# Altium footprint library Connectors.PcbLib: 33 footprints (part 1 of 3)
Each footprint in its own frame and in the unit in brackets; x right, y up, seen from the top. Pads: shape width x height; smd on the part's side, far side on the other; paste and mask are expansions set on the pad; w line width, h text height; cw(c..) or ccw(c..) is an arc to the next point about the centre after c.
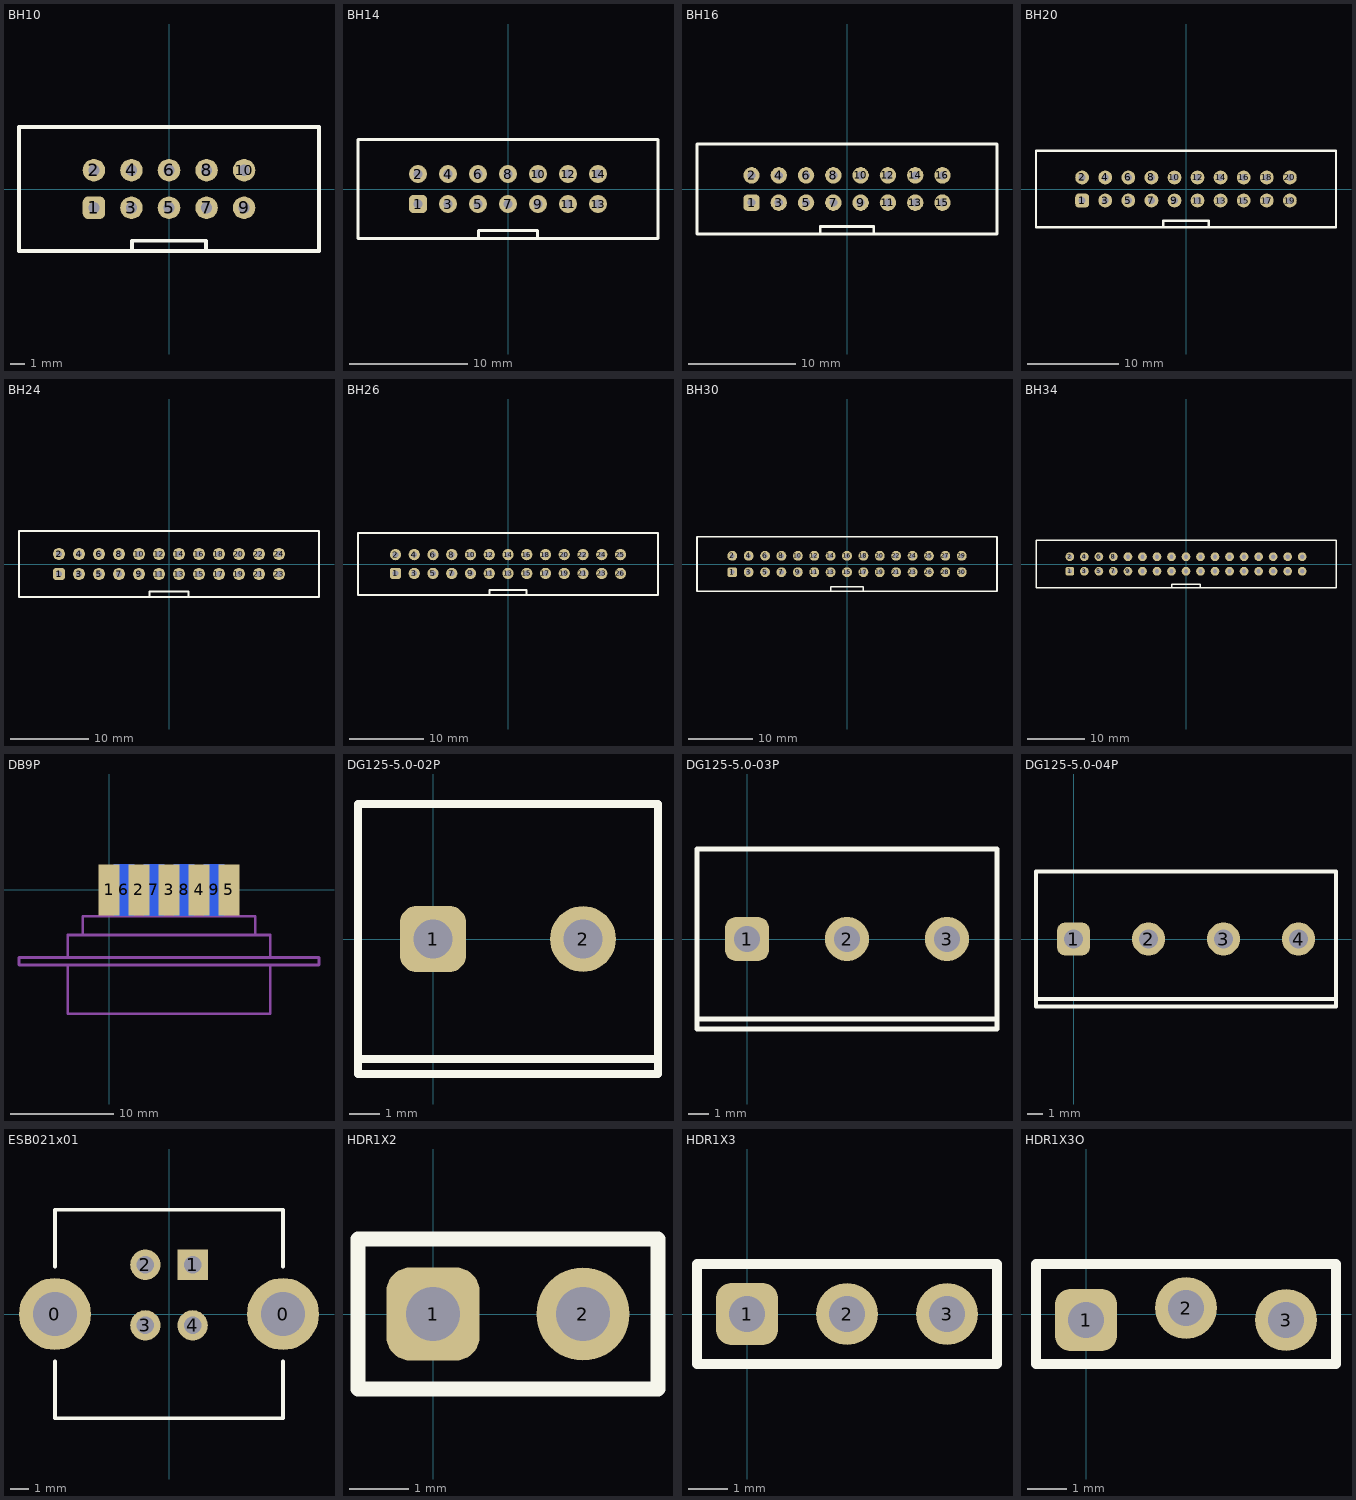
[diagram p0: the footprints below, top view; thin cyan lines are the x and y axes]

## BH10 [mil] "BH10"
height 366.14
pads (10):
  rrect50% 60x60 hole 30: 1(-200,-50)
  round 60 hole 30: 2(-200,50) 3(-100,-50) 4(-100,50) 5(0,-50) 6(0,50) 7(100,-50) 8(100,50) 9(200,-50) 10(200,50)
Top Overlay:
  lines w10: -98.43,-165.35 -98.43,-137.8 98.43,-137.8 98.43,-165.35 ; -399.61,-165.35 399.61,-165.35 399.61,165.35 -399.61,165.35 -399.61,-165.35
3D body: height 366.14, standoff 0, extent -398.62,-165.35 399.61,165.35

## BH14 [mil]
height 366.14
pads (14):
  rrect50% 60x60 hole 30: 1(-300,-50)
  round 60 hole 30: 2(-300,50) 3(-200,-50) 4(-200,50) 5(-100,-50) 6(-100,50) 7(0,-50) 8(0,50) 9(100,-50) 10(100,50) 11(200,-50) 12(200,50) 13(300,-50) 14(300,50)
Top Overlay:
  lines w10: -98.43,-165.35 -98.43,-137.8 98.43,-137.8 98.43,-165.35 ; -500,-165.35 -500,165.35 500,165.35 500,-165.35 -500,-165.35
3D body: height 366.14, standoff 0, extent -500,-165.35 500,165.35

## BH16 [mil]
height 366.14
pads (16):
  rrect50% 60x60 hole 30: 1(-350,-50)
  round 60 hole 30: 2(-350,50) 3(-250,-50) 4(-250,50) 5(-150,-50) 6(-150,50) 7(-50,-50) 8(-50,50) 9(50,-50) 10(50,50) 11(150,-50) 12(150,50) 13(250,-50) 14(250,50) 15(350,-50) 16(350,50)
Top Overlay:
  lines w10: -98.43,-165.35 -98.43,-137.8 98.43,-137.8 98.43,-165.35 ; -550,-165.35 550,-165.35 550,165.35 -550,165.35 -550,-165.35
3D body: height 366.14, standoff 0, extent -550,-165.4 550,165.35

## BH20 [mil]
height 366.14
pads (20):
  rrect50% 60x60 hole 30: 1(-450,-50)
  round 60 hole 30: 2(-450,50) 3(-350,-50) 4(-350,50) 5(-250,-50) 6(-250,50) 7(-150,-50) 8(-150,50) 9(-50,-50) 10(-50,50) 11(50,-50) 12(50,50) 13(150,-50) 14(150,50) 15(250,-50) 16(250,50) 17(350,-50) 18(350,50) 19(450,-50) 20(450,50)
Top Overlay:
  lines w10: -98.43,-165.35 -98.43,-137.8 98.43,-137.8 98.43,-165.35 ; -650,-165.35 -650,165.35 650,165.35 650,-165.35 -650,-165.35
3D body: height 366.14, standoff 0, extent -650,-165.5 650,165.35

## BH24 [mil]
height 366.14
pads (24):
  rrect50% 60x60 hole 30: 1(-550,-50)
  round 60 hole 30: 2(-550,50) 3(-450,-50) 4(-450,50) 5(-350,-50) 6(-350,50) 7(-250,-50) 8(-250,50) 9(-150,-50) 10(-150,50) 11(-50,-50) 12(-50,50) 13(50,-50) 14(50,50) 15(150,-50) 16(150,50) 17(250,-50) 18(250,50) 19(350,-50) 20(350,50) 21(450,-50) 22(450,50) 23(550,-50) 24(550,50)
Top Overlay:
  lines w10: -98.43,-165.35 -98.43,-137.8 98.43,-137.8 98.43,-165.35 ; -750,-165.35 750,-165.35 750,165.35 -750,165.35 -750,-165.35
3D body: height 366.14, standoff 0, extent -750,-165.43 750,165.43

## BH26 [mil]
height 366.14
pads (26):
  rrect50% 60x60 hole 30: 1(-600,-50)
  round 60 hole 30: 2(-600,50) 3(-500,-50) 4(-500,50) 5(-400,-50) 6(-400,50) 7(-300,-50) 8(-300,50) 9(-200,-50) 10(-200,50) 11(-100,-50) 12(-100,50) 13(0,-50) 14(0,50) 15(100,-50) 16(100,50) 17(200,-50) 18(200,50) 19(300,-50) 20(300,50) 21(400,-50) 22(400,50) 23(500,-50) 24(500,50) 25(600,50) 26(600,-50)
Top Overlay:
  lines w10: -98.43,-165.35 -98.43,-137.8 98.43,-137.8 98.43,-165.35 ; -800,-165.35 800,-165.35 800,165.35 -800,165.35 -800,-165.35
3D body: height 366.14, standoff 0, extent -800,-165.48 800,165.43

## BH30 [mil]
height 366.14
pads (30):
  rrect50% 60x60 hole 30: 1(-700,-50)
  round 60 hole 30: 2(-700,50) 3(-600,-50) 4(-600,50) 5(-500,-50) 6(-500,50) 7(-400,-50) 8(-400,50) 9(-300,-50) 10(-300,50) 11(-200,-50) 12(-200,50) 13(-100,-50) 14(-100,50) 15(0,-50) 16(0,50) 17(100,-50) 18(100,50) 19(200,-50) 20(200,50) 21(300,-50) 22(300,50) 23(400,-50) 24(400,50) 25(500,50) 26(500,-50) 27(600,50) 28(600,-50) 29(700,50) 30(700,-50)
Top Overlay:
  lines w10: -98.43,-165.35 -98.43,-137.8 98.43,-137.8 98.43,-165.35 ; -915.35,-165.35 915.35,-165.35 915.35,165.35 -915.35,165.35 -915.35,-165.35
3D body: height 366.14, standoff 0, extent -915.35,-165.59 915.35,165.43

## BH34 [mil]
height 366.14
pads (34):
  rrect50% 60x60 hole 30: 1(-800,-50)
  round 60 hole 30: 2(-800,50) 3(-700,-50) 4(-700,50) 5(-600,-50) 6(-600,50) 7(-500,-50) 8(-500,50) 9(-400,-50) 10(-400,50) 11(-300,-50) 12(-300,50) 13(-200,-50) 14(-200,50) 15(-100,-50) 16(-100,50) 17(0,-50) 18(0,50) 19(100,-50) 20(100,50) 21(200,-50) 22(200,50) 23(300,-50) 24(300,50) 25(400,50) 26(400,-50) 27(500,50) 28(500,-50) 29(600,50) 30(600,-50) 31(700,50) 32(700,-50) 33(800,50) 34(800,-50)
Top Overlay:
  lines w10: -98.43,-165.35 -98.43,-137.8 98.43,-137.8 98.43,-165.35 ; -1033.46,-165.35 -1033.46,165.35 1033.46,165.35 1033.46,-165.35 -1033.46,-165.35
3D body: height 366.14, standoff 0, extent -1033.46,-165.71 1033.46,165.43

## DB9P [mm] "Variable Resistor, Thru-Hole; 3 Leads"
height 1.524
pads (9):
  rect 2x5 smd: 1(0,0) 2(2.92,0) 3(5.84,0) 4(8.76,0) 5(11.68,0)
  rect 2x5 smd far side: 6(1.46,0) 7(4.38,0) 8(7.3,0) 9(10.22,0)
Mechanical 1:
  lines w0.254: -4.015,-7.3 -4.015,-12.045 15.695,-12.045 15.695,-7.3 ; 14.224,-2.555 -2.555,-2.555 -2.555,-4.38 ; 14.235,-2.555 14.235,-4.38 ; -4.015,-6.57 -8.76,-6.57 -8.76,-7.3 20.44,-7.3 20.44,-6.57 15.695,-6.57 ; -4.015,-6.57 15.695,-6.57 ; -4.015,-6.57 -4.015,-4.38 -2.555,-4.38 ; -2.555,-4.38 14.235,-4.38 ; 14.235,-4.38 15.695,-4.38 15.695,-6.57

## DG125-5.0-02P [mm]
pads (2):
  rrect50% 2.2x2.2 hole 1.3: 1(0,0)
  round 2.2 hole 1.3: 2(5,0)
Top Overlay:
  lines w0.254: -2.5,-4 7.5,-4 ; -2.5,-4.5 7.5,-4.5 7.5,4.5 -2.5,4.5 -2.5,-4.5

## DG125-5.0-03P [mm]
pads (3):
  rrect50% 2.2x2.2 hole 1.3: 1(0,0)
  round 2.2 hole 1.3: 2(5,0) 3(10,0)
Top Overlay:
  lines w0.254: -2.5,-4 12.5,-4 ; -2.5,-4.5 12.5,-4.5 12.5,4.5 -2.5,4.5 -2.5,-4.5

## DG125-5.0-04P [mm]
pads (4):
  rrect50% 2.2x2.2 hole 1.3: 1(0,0)
  round 2.2 hole 1.3: 2(5,0) 3(10,0) 4(15,0)
Top Overlay:
  lines w0.254: -2.5,-4 17.5,-4 ; -2.5,-4.5 -2.5,4.5 17.5,4.5 17.5,-4.5 -2.5,-4.5

## ESB021x01 [mm] "Connector; USB1.1, Type B, Thru-Hole; 4 Position; Straight"
height 15.7
pads (6):
  round 3.8 hole 2.3: 0(-6.02,0) 0(6.02,0)
  rect 1.6x1.6 hole 0.92: 1(1.25,2.6)
  round 1.6 hole 0.92: 2(-1.25,2.6) 3(-1.25,-0.6) 4(1.25,-0.6)
Top Overlay:
  lines w0.2: -6.02,-2.5 -6.02,-5.5 6.02,-5.5 6.02,-2.5 ; -6.02,2.5 -6.02,5.5 6.02,5.5 6.02,2.5
3D body: height 11.1, standoff 0, extent -6,-5.5 6,5.5

## HDR1X2 [mil] "Header; 2 Position"
height 440.94
pads (2):
  rrect50% 62x62 hole 36: 1(0,0)
  round 62 hole 36: 2(100,0)
Top Overlay:
  lines w10: -50,-50 -50,50 150,50 150,-50 -50,-50

## HDR1X3 [mil] "Header; 3 Position"
height 440.94
pads (3):
  rrect50% 62x62 hole 36: 1(0,0)
  round 62 hole 36: 2(100,0) 3(200,0)
Top Overlay:
  lines w10: -50,-50 250,-50 250,50 -50,50 -50,-50

## HDR1X3O [mil] "Header; 3 Position"
height 440.94
pads (3):
  rrect50% 62x62 hole 36: 1(0,-6)
  round 62 hole 36: 2(100,6) 3(200,-6)
Top Overlay:
  lines w10: -50,-50 250,-50 250,50 -50,50 -50,-50